# EAGLE library part AS-ITM-00141 (library tinycircuits)
IC DAC 12BIT W/I2C 10-MSOP
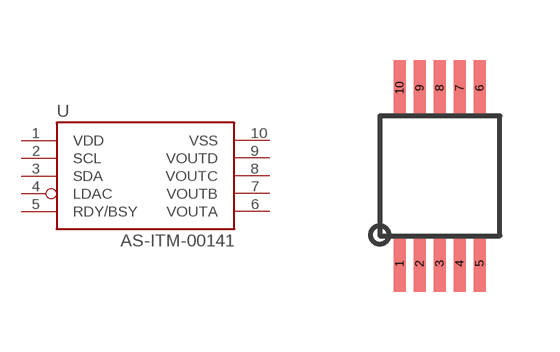
[diagram p63: symbol with the pads of MCP4728; footprint MCP4728]

Designator prefix U

## AS-ITM-00141 (PARTNO: AS-ITM-00141; VALUE: MCP4728-E/UN)  [MCP4728]
1  VDD
2  SCL
3  SDA
4  LDAC
5  RDY/BSY
6  VOUTA
7  VOUTB
8  VOUTC
9  VOUTD
10  VSS

## Footprint MCP4728 (pad centres in mm)
smd 0.3 x 1.4: 1 -1,-2.2; 2 -0.5,-2.2; 3 0,-2.2; 4 0.5,-2.2; 5 1,-2.2; 6 1,2.2; 7 0.5,2.2; 8 0,2.2; 9 -0.5,2.2; 10 -1,2.2